# Altium schematic symbol library Schlib1.SchLib: 4 symbols
Pins are listed as number, name and electrical type; pins without a type are passive.

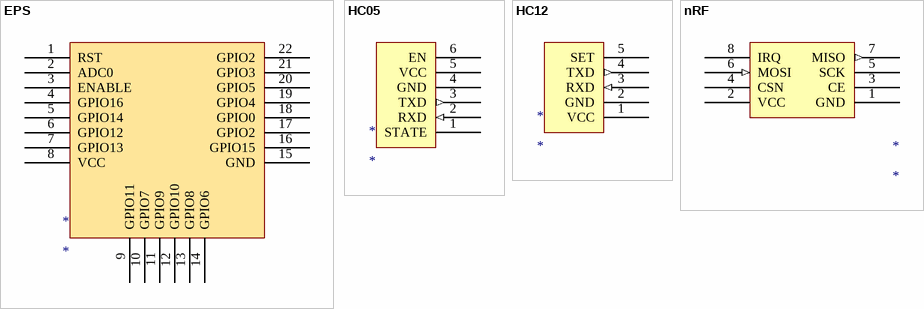
[diagram p0: symbols EPS to nRF]

## EPS
designator *
footprint EPS
pins: 1 RST, 2 ADC0, 3 ENABLE, 4 GPIO16, 5 GPIO14, 6 GPIO12, 7 GPIO13, 8 VCC (power), 9 GPIO11, 10 GPIO7, 11 GPIO9, 12 GPIO10, 13 GPIO8, 14 GPIO6, 15 GND, 16 GPIO15, 17 GPIO2, 18 GPIO0, 19 GPIO4, 20 GPIO5, 21 GPIO3, 22 GPIO2

## HC05
designator *
footprint HC05
pins: 1 STATE, 2 RXD (in), 3 TXD (out), 4 GND, 5 VCC (power), 6 EN

## HC12
designator *
footprint HC12
pins: 1 VCC (power), 2 GND, 3 RXD (in), 4 TXD (out), 5 SET

## nRF
designator *
footprint nRF
pins: 1 GND, 2 VCC (power), 3 CE, 4 CSN (power), 5 SCK, 6 MOSI (in), 7 MISO (out), 8 IRQ